# Altium schematic symbol library AD9235BCPZ.SchLib: 1 symbol
Pins are listed as number, name and electrical type; pins without a type are passive.

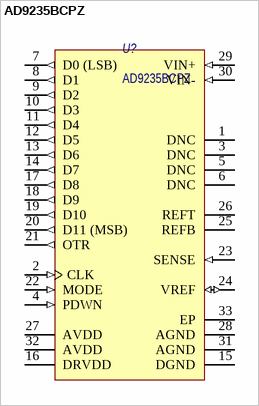
[diagram p0: symbol AD9235BCPZ]

## AD9235BCPZ
designator U?
Quad, 14-Bit, 80 MSPS/105 MSPS/125 MSPS / Serial LVDS 1.8 V Analog-to-Digital Converter; Наименование: AD9253BCPZ; Потребление, Вт: 0.11; Назначение: Quad, 14-Bit, 80 MSPS/105 MSPS/125 MSPS
footprint LFCSP-32 (32-Lead Frame Chip Scale Package 5х5)
footprint 5142.48-А_SHIELD_LFCSP-32
pins: 1 DNC "Do Not Connect.", 2 CLK (in) "Clock Input Pin.", 3 DNC "Do Not Connect.", 4 PDWN (in) "Power-Down Function Selection (Active High).", 5 DNC "Do Not Connect.", 6 DNC "Do Not Connect.", 7 D0 (LSB) (out) "Data Output Bits.", 8 D1 (out) "Data Output Bits.", 9 D2 (out) "Data Output Bits.", 10 D3 (out) "Data Output Bits.", 11 D4 (out) "Data Output Bits.", 12 D5 (out) "Data Output Bits.", 13 D6 (out) "Data Output Bits.", 14 D7 (out) "Data Output Bits.", 15 DGND (power) "Digital Output Ground.", 16 DRVDD (power) "Digital Output Driver Supply. Must be decoupled to DGND with a minimum.0.1 uF capacitor. Recommended decoupling is 0.1 uF in parallel with 10 uF.", 17 D8 (out) "Data Output Bits.", 18 D9 (out) "Data Output Bits.", 19 D10 (out) "Data Output Bits.", 20 D11 (MSB) (out) "Data Output Bits.", 21 OTR (out) "Out-of-Range Indicator.", 22 MODE (in) "Data Format and Clock Duty Cycle Stabilizer (DCS) Mode Selection.", 23 SENSE (in) "Reference Mode Selection.", 24 VREF (io) "Voltage Reference Input/Output.", 25 REFB "Differential Reference (-).", 26 REFT "Differential Reference (+).", 27 AVDD (power) "Analog Power Supply.", 28 AGND (power) "Analog Ground.", 29 VIN+ (in) "Analog Input Pin (+).", 30 VIN- (in) "Analog Input Pin (-).", 31 AGND (power) "Analog Ground.", 32 AVDD (power) "Analog Power Supply.", 33 EP (power) "Exposed paddle"